# Altium footprint library Passives.PcbLib: 27 footprints (part 2 of 2)
Each footprint in its own frame and in the unit in brackets; x right, y up, seen from the top. Pads: shape width x height; smd on the part's side, far side on the other; paste and mask are expansions set on the pad; w line width, h text height; cw(c..) or ccw(c..) is an arc to the next point about the centre after c.
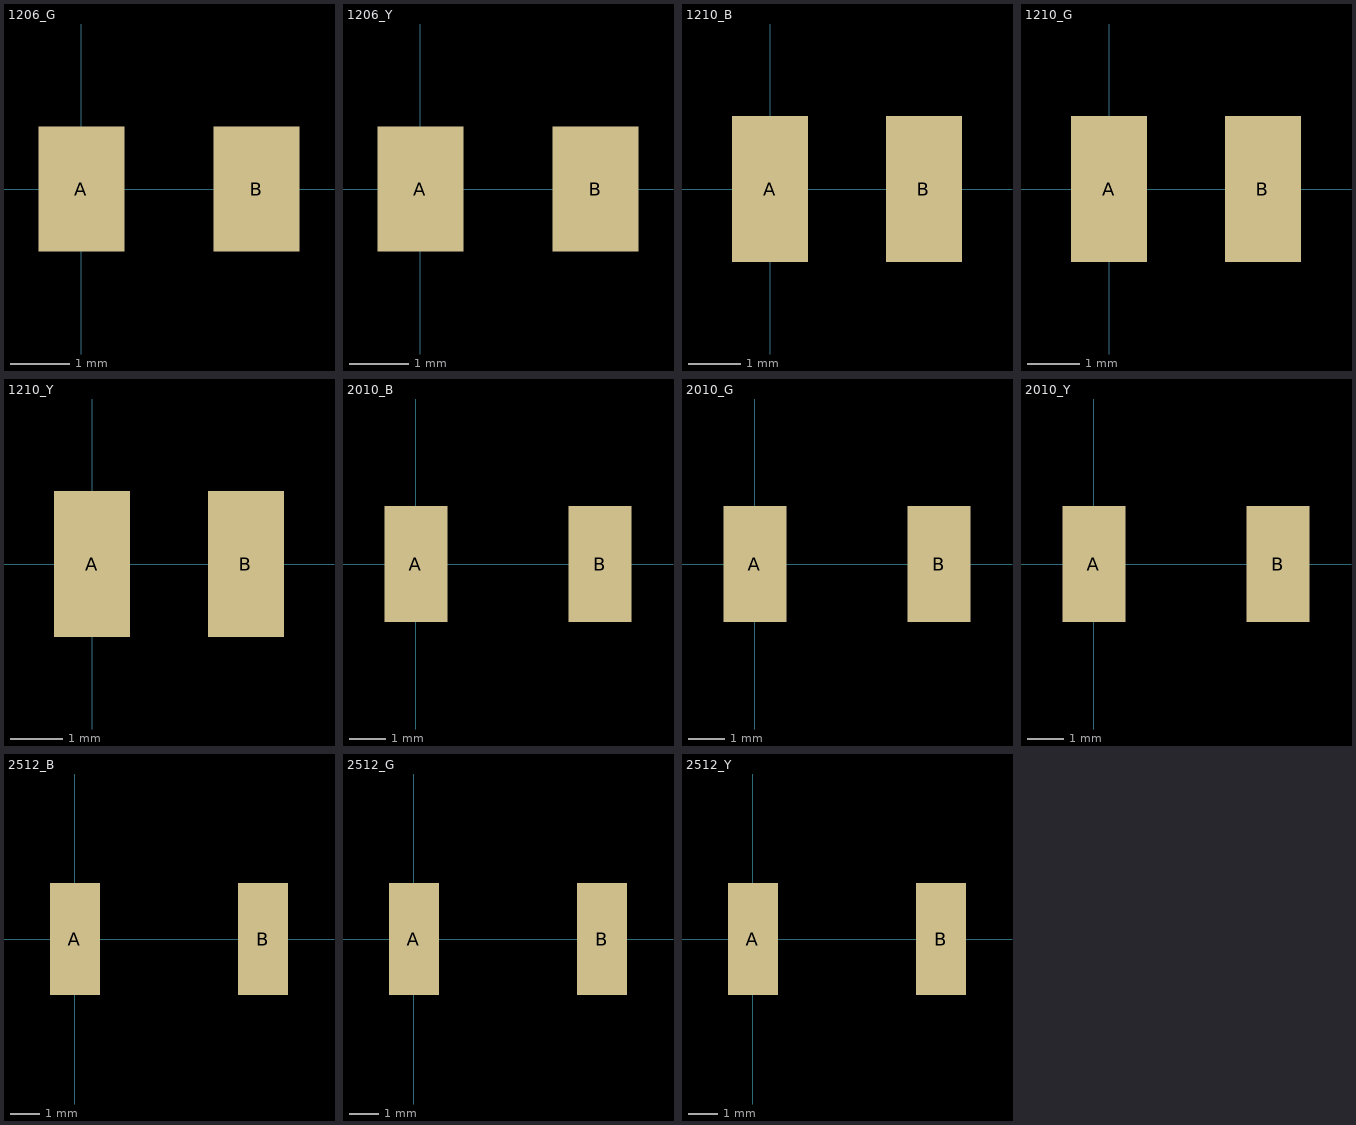
[diagram p1: the footprints below, top view; thin cyan lines are the x and y axes]

## 1206_G [mm]
pads (2):
  rect 1.45x2.1 smd: A(0,0) B(2.95,0)
3D body "1206_grey.step": height 0.55, standoff 0, extent -0.15,-0.75 3.05,0.85

## 1206_Y [mm]
pads (2):
  rect 1.45x2.1 smd: A(0,0) B(2.95,0)
3D body "1206_yellow.step": height 0.55, standoff 0, extent -0.15,-0.75 3.05,0.85

## 1210_B [mm]
pads (2):
  rect 1.45x2.8 smd: A(0,0) B(2.95,0)
3D body "1210_black.step": height 0.55, standoff 0, extent -0.1,-1.229 3.1,1.271

## 1210_G [mm]
pads (2):
  rect 1.45x2.8 smd: A(0,0) B(2.95,0)
3D body "1210_grey.step": height 0.55, standoff 0, extent -0.144,-1.229 3.056,1.271

## 1210_Y [mm]
pads (2):
  rect 1.45x2.8 smd: A(0,0) B(2.95,0)
3D body "1210_yellow.step": height 0.55, standoff 0, extent -0.144,-1.229 3.056,1.271

## 2010_B [mm]
pads (2):
  rect 1.7x3.15 smd: A(0,0) B(5,0)
3D body "2010_black.step": height 0.6, standoff 0, extent 0,-1.27 5,1.23

## 2010_G [mm]
pads (2):
  rect 1.7x3.15 smd: A(0,0) B(5,0)
3D body "2010_grey.step": height 0.6, standoff 0, extent -0.04,-1.27 4.96,1.23

## 2010_Y [mm]
pads (2):
  rect 1.7x3.15 smd: A(0,0) B(5,0)
3D body "2010_yellow.step": height 0.6, standoff 0, extent 0.04,-1.27 5.04,1.23

## 2512_B [mm]
pads (2):
  rect 1.7x3.8 smd: A(0,0) B(6.4,0)
3D body "2512_black.step": height 0.6, standoff 0, extent 0,-1.57 6.4,1.63

## 2512_G [mm]
pads (2):
  rect 1.7x3.8 smd: A(0,0) B(6.4,0)
3D body "2512_grey.step": height 0.6, standoff 0, extent 0.005,-1.57 6.405,1.63

## 2512_Y [mm]
pads (2):
  rect 1.7x3.8 smd: A(0,0) B(6.4,0)
3D body "2512_yellow.step": height 0.6, standoff 0, extent -0.005,-1.57 6.395,1.63